# Altium footprint library Connectors Coaxial.PcbLib: 1 footprints
Each footprint in its own frame and in the unit in brackets; x right, y up, seen from the top. Pads: shape width x height; smd on the part's side, far side on the other; paste and mask are expansions set on the pad; w line width, h text height; cw(c..) or ccw(c..) is an arc to the next point about the centre after c.
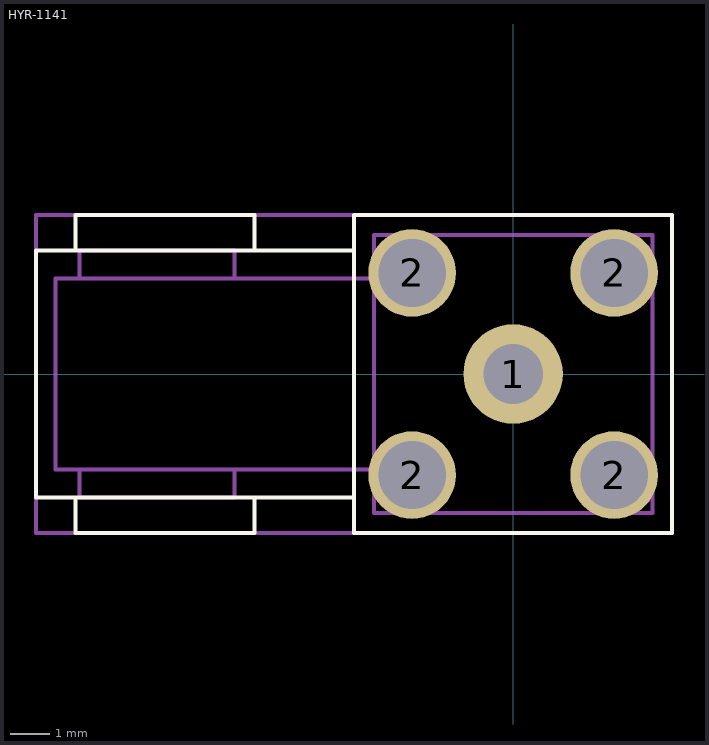
[diagram p0: the footprint, top view; thin cyan lines are the x and y axes]

## HYR-1141 [mm] "SMA JACK"
height 10
pads (5):
  round 2.5 hole 1.5: 1(0,0)
  round 2.2 hole 1.7: 2(-2.54,-2.54) 2(-2.54,2.54) 2(2.54,-2.54) 2(2.54,2.54)
Top Overlay:
  lines w0.1: -12,-3.1 -12,3.1 -4,3.1 -4,-3.1 -12,-3.1 ; -11,-4 -11,-3.1 -6.5,-3.1 -6.5,-4 -11,-4 ; -11,3.1 -6.5,3.1 -6.5,4 -11,4 -11,3.1 ; -4,-4 4,-4 4,4 -4,4 -4,-4
Top Package:
  circle w0.1: c0,0 r0.5
  circle w0.1: c2.54,2.54 r0.5
  circle w0.1: c-2.54,2.54 r0.5
  circle w0.1: c-2.54,-2.54 r0.5
  circle w0.1: c2.54,-2.54 r0.5
  lines w0.1: -10.9,-2.4 -10.9,-3.1 -7,-3.1 -7,-2.4 ; -10.9,2.4 -10.9,3.1 -7,3.1 -7,2.4 ; -11.5,-2.4 -11.5,2.4 -3.5,2.4 -3.5,-2.4 -11.5,-2.4 ; -3.5,-3.5 -3.5,3.5 3.5,3.5 3.5,-3.5 -3.5,-3.5
Top Border:
  lines w0.1: -1,0 1,0 ; 0,-1 0,1 ; -12,-4 -12,4 4,4 4,-4 -12,-4
3D body "SMA JACK 73100-0115.step": height 9.57, standoff -3.93, extent -11.575,-3.175 3.225,3.175